# EAGLE library part LPS331AP (library chips)
IC PRESSURE SENSOR PIEZO 16HCLGA
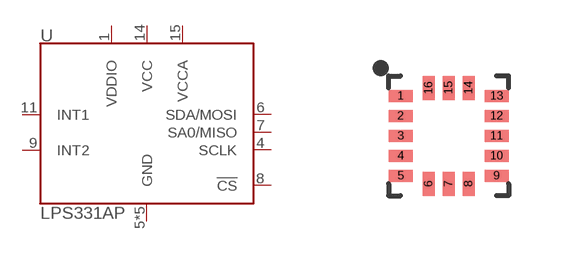
[diagram p18: symbol with the pads of HCLGA-16/3MM; footprint HCLGA-16/3MM]

Designator prefix U

## LPS331AP (DIGIKEY: 497-12927-1-ND)  [HCLGA-16/3MM]
1  VDDIO
4  SCLK
5  GND
6  SDA/MOSI
7  SA0/MISO
8  !CS
9  INT2
10  GND
11  INT1
12  GND
13  GND
14  VCC
15  VCCA
16  GND

## Footprint HCLGA-16/3MM (pad centres in mm)
smd 0.6 x 0.3: 1 -1.2,1; 2 -1.2,0.5; 3 -1.2,0; 4 -1.2,-0.5; 5 -1.2,-1; 9 1.2,-1; 10 1.2,-0.5; 11 1.2,0; 12 1.2,0.5; 13 1.2,1
smd 0.3 x 0.6: 6 -0.5,-1.2; 7 0,-1.2; 8 0.5,-1.2; 14 0.5,1.2; 15 0,1.2; 16 -0.5,1.2